# EAGLE library part ARDUINO_SHIELD_INCOMPLETE-A (library arno)
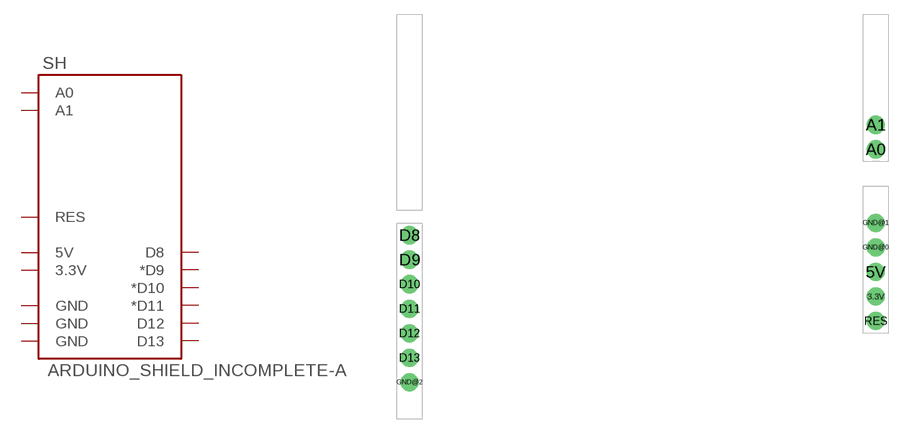
[diagram p0: symbol with the pads of DUE_VIAS_INCOMPLETE-A; footprint DUE_VIAS_INCOMPLETE-A]

Designator prefix SH

## ARDUINO_SHIELD_INCOMPLETE-A  [DUE_VIAS_INCOMPLETE-A]
3.3V  3.3V
5V  5V
A0  A0
A1  A1
D8  D8
D9  *D9
D10  *D10
D11  *D11
D12  D12
D13  D13
GND@0  GND
GND@1  GND
GND@2  GND
RES  RES

## Footprint DUE_VIAS_INCOMPLETE-A (pad centres in mm)
drill 1.016 pad 1.88: 3.3V 49.53,-29.21; 5V 49.53,-26.67; A0 49.53,-13.97; A1 49.53,-11.43; D8 1.27,-22.86; D9 1.27,-25.4; D10 1.27,-27.94; D11 1.27,-30.48; D12 1.27,-33.02; D13 1.27,-35.56; GND@0 49.53,-24.13; GND@1 49.53,-21.59; GND@2 1.27,-38.1; RES 49.53,-31.75